# EAGLE library part CD4072B (library interface (2))
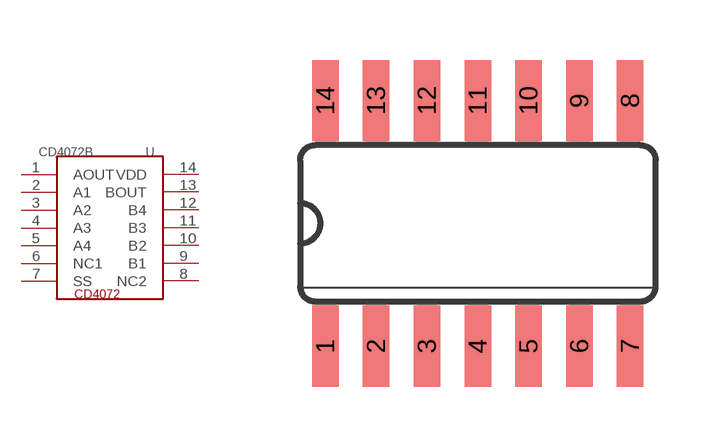
[diagram p1: symbol with the pads of SO14; footprint SO14]

Designator prefix -

## CD4072B  [SO14]
1  AOUT
2  A1
3  A2
4  A3
5  A4
6  NC1
7  SS
8  NC2
9  B1
10  B2
11  B3
12  B4
13  BOUT
14  VDD

## Footprint SO14 (pad centres in mm)
Small Outline Package
smd 0.66 x 2.032: 1 -3.81,-3.073; 2 -2.54,-3.073; 3 -1.27,-3.073; 4 0,-3.073; 5 1.27,-3.073; 6 2.54,-3.073; 7 3.81,-3.073; 8 3.81,3.073; 9 2.54,3.073; 10 1.27,3.073; 11 0,3.073; 12 -1.27,3.073; 13 -2.54,3.073; 14 -3.81,3.073